# Altium footprint library con-dil.PCBLIB: 24 footprints (part 2 of 2)
Each footprint in its own frame and in the unit in brackets; x right, y up, seen from the top. Pads: shape width x height; smd on the part's side, far side on the other; paste and mask are expansions set on the pad; w line width, h text height; cw(c..) or ccw(c..) is an arc to the next point about the centre after c.
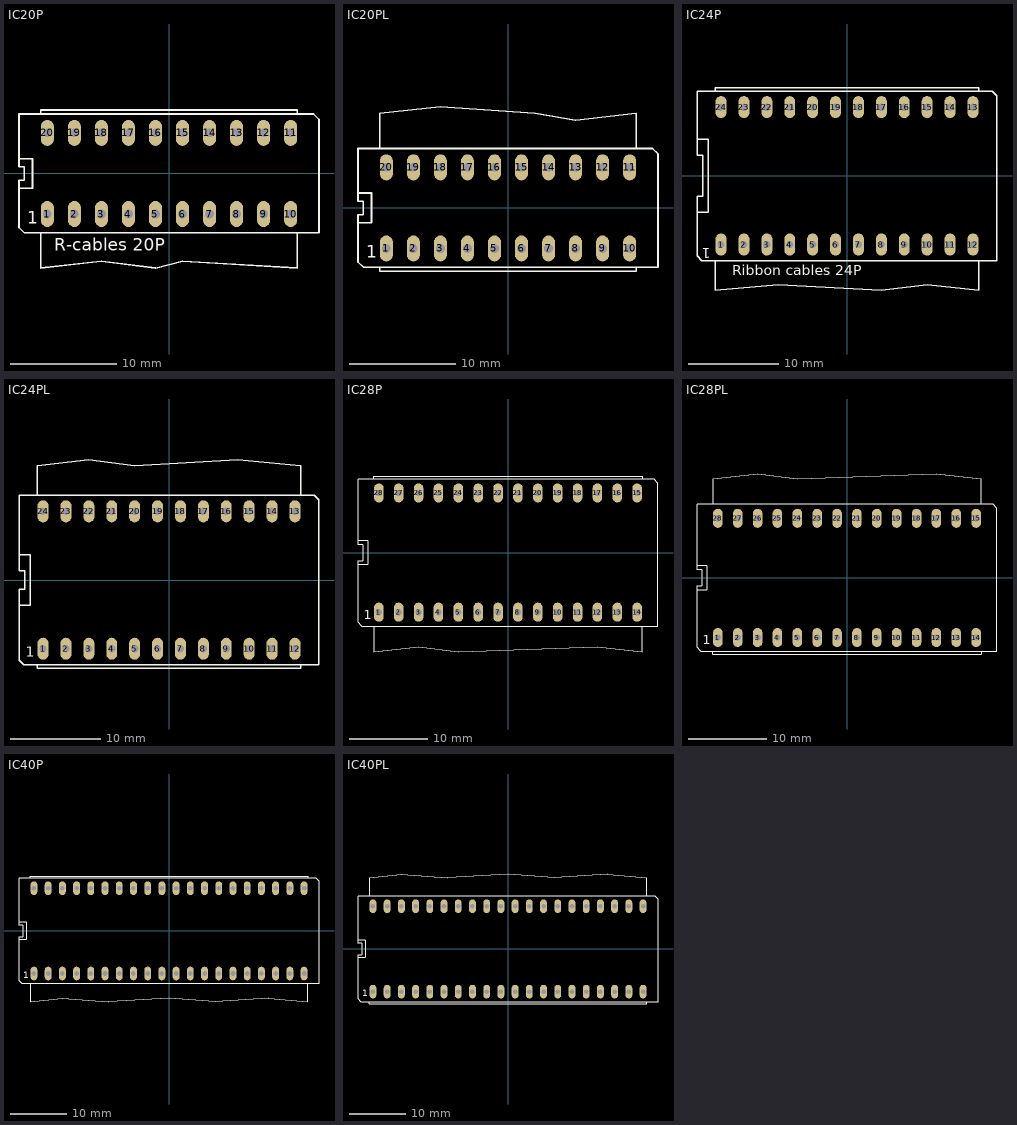
[diagram p1: the footprints below, top view; thin cyan lines are the x and y axes]

## IC20P [mil]
pads (20):
  oval 48x96 hole 32: 1(-450,-150) 2(-350,-150) 3(-250,-150) 4(-150,-150) 5(-50,-150) 6(50,-150) 7(150,-150) 8(250,-150) 9(350,-150) 10(450,-150) 11(450,150) 12(350,150) 13(250,150) 14(150,150) 15(50,150) 16(-50,150) 17(-150,150) 18(-250,150) 19(-350,150) 20(-450,150)
Top Overlay:
  lines w6: -555,-55 -505,-55 -505,55 -555,55 ; -555,-55 -555,-25 -535,-25 -535,25 -555,25 -555,55 ; -555,-55 -555,-200 -535,-220 -475,-220 ; -555,55 -555,220 -475,220 ; -475,-220 -475,-350 -250,-325 -50,-350 50,-325 475,-350 475,-220 ; -475,-220 475,-220 ; -475,220 475,220 ; -475,220 -475,235 475,235 475,220 ; 475,-220 555,-220 555,200 535,220 475,220
  text "1" at -525,-200 h77.5
  text "R-cables 20P" at -425,-300 h77.5

## IC20PL [mil]
pads (20):
  oval 48x96 hole 32: 1(-450,-150) 2(-350,-150) 3(-250,-150) 4(-150,-150) 5(-50,-150) 6(50,-150) 7(150,-150) 8(250,-150) 9(350,-150) 10(450,-150) 11(450,150) 12(350,150) 13(250,150) 14(150,150) 15(50,150) 16(-50,150) 17(-150,150) 18(-250,150) 19(-350,150) 20(-450,150)
Top Overlay:
  lines w6: -555,-55 -505,-55 -505,55 -555,55 ; -555,-55 -555,-25 -535,-25 -535,25 -555,25 -555,55 ; -555,-55 -555,-200 -535,-220 -475,-220 ; -555,55 -555,220 -475,220 ; -475,-220 -475,-235 475,-235 475,-220 ; -475,-220 475,-220 ; -475,220 -475,350 -250,375 100,350 250,325 475,350 475,220 ; -475,220 475,220 ; 475,-220 555,-220 555,200 535,220 475,220
  text "1" at -525,-200 h77.5

## IC24P [mil]
pads (24):
  oval 48x96 hole 32: 1(-550,-300) 2(-450,-300) 3(-350,-300) 4(-250,-300) 5(-150,-300) 6(-50,-300) 7(50,-300) 8(150,-300) 9(250,-300) 10(350,-300) 11(450,-300) 12(550,-300) 13(550,300) 14(450,300) 15(350,300) 16(250,300) 17(150,300) 18(50,300) 19(-50,300) 20(-150,300) 21(-250,300) 22(-350,300) 23(-450,300) 24(-550,300)
Top Overlay:
  lines w6: -655,-160 -605,-160 -605,160 -655,160 ; -655,-160 -655,-90 -630,-90 -630,90 -655,90 -655,160 ; -655,-160 -655,-350 -635,-370 -575,-370 ; -655,160 -655,370 -575,370 ; -575,-370 -575,-500 -300,-475 150,-500 350,-475 575,-500 575,-370 ; -575,-370 575,-370 ; -575,370 575,370 ; -575,370 -575,385 575,385 575,370 ; 575,-370 655,-370 655,350 635,370 575,370
  text "1" at -595,-300 h77.5
  text "Ribbon cables 24P" at -500,-450 h77.5

## IC24PL [mil]
pads (24):
  oval 48x96 hole 32: 1(-550,-300) 2(-450,-300) 3(-350,-300) 4(-250,-300) 5(-150,-300) 6(-50,-300) 7(50,-300) 8(150,-300) 9(250,-300) 10(350,-300) 11(450,-300) 12(550,-300) 13(550,300) 14(450,300) 15(350,300) 16(250,300) 17(150,300) 18(50,300) 19(-50,300) 20(-150,300) 21(-250,300) 22(-350,300) 23(-450,300) 24(-550,300)
Top Overlay:
  lines w6: -655,-110 -605,-110 -605,110 -655,110 ; -655,-110 -655,-40 -630,-40 -630,40 -655,40 -655,110 ; -655,-110 -655,-350 -635,-370 -575,-370 ; -655,110 -655,370 -575,370 ; -575,-370 -575,-385 575,-385 575,-370 ; -575,-370 575,-370 ; -575,370 575,370 ; -575,370 -575,500 -350,525 -150,500 300,525 575,500 575,370 ; 575,-370 655,-370 655,350 635,370 575,370
  text "1" at -625,-350 h77.5

## IC28P [mil]
pads (28):
  oval 48x96 hole 32: 1(-650,-300) 2(-550,-300) 3(-450,-300) 4(-350,-300) 5(-250,-300) 6(-150,-300) 7(-50,-300) 8(50,-300) 9(150,-300) 10(250,-300) 11(350,-300) 12(450,-300) 13(550,-300) 14(650,-300) 15(650,300) 16(550,300) 17(450,300) 18(350,300) 19(250,300) 20(150,300) 21(50,300) 22(-50,300) 23(-150,300) 24(-250,300) 25(-350,300) 26(-450,300) 27(-550,300) 28(-650,300)
Top Overlay:
  lines w6: -755,-60 -705,-60 -705,60 -755,60 ; -755,-60 -755,-40 -730,-40 -730,40 -755,40 -755,60 ; -755,-60 -755,-350 -735,-370 -675,-370 ; -755,60 -755,370 -675,370 ; -675,-370 -675,-500 -450,-475 -250,-500 450,-475 675,-500 675,-370 ; -675,-370 675,-370 ; -675,370 675,370 ; -675,370 -675,385 675,385 675,370 ; 675,-370 755,-370 755,350 735,370 675,370
  text "1" at -725,-350 h77.5

## IC28PL [mil]
pads (28):
  oval 48x96 hole 32: 1(-650,-300) 2(-550,-300) 3(-450,-300) 4(-350,-300) 5(-250,-300) 6(-150,-300) 7(-50,-300) 8(50,-300) 9(150,-300) 10(250,-300) 11(350,-300) 12(450,-300) 13(550,-300) 14(650,-300) 15(650,300) 16(550,300) 17(450,300) 18(350,300) 19(250,300) 20(150,300) 21(50,300) 22(-50,300) 23(-150,300) 24(-250,300) 25(-350,300) 26(-450,300) 27(-550,300) 28(-650,300)
Top Overlay:
  lines w6: -755,-60 -705,-60 -705,60 -755,60 ; -755,-60 -755,-40 -730,-40 -730,40 -755,40 -755,60 ; -755,-60 -755,-350 -735,-370 -675,-370 ; -755,60 -755,370 -675,370 ; -675,-370 675,-370 ; -675,-370 -675,-385 675,-385 675,-370 ; -675,370 -675,500 -450,525 -250,500 450,525 675,500 675,370 ; -675,370 675,370 ; 675,-370 755,-370 755,350 735,370 675,370
  text "1" at -725,-350 h77.5

## IC40P [mil]
pads (40):
  oval 48x96 hole 32: 1(-950,-300) 2(-850,-300) 3(-750,-300) 4(-650,-300) 5(-550,-300) 6(-450,-300) 7(-350,-300) 8(-250,-300) 9(-150,-300) 10(-50,-300) 11(50,-300) 12(150,-300) 13(250,-300) 14(350,-300) 15(450,-300) 16(550,-300) 17(650,-300) 18(750,-300) 19(850,-300) 20(950,-300) 21(950,300) 22(850,300) 23(750,300) 24(650,300) 25(550,300) 26(450,300) 27(350,300) 28(250,300) 29(150,300) 30(50,300) 31(-50,300) 32(-150,300) 33(-250,300) 34(-350,300) 35(-450,300) 36(-550,300) 37(-650,300) 38(-750,300) 39(-850,300) 40(-950,300)
Top Overlay:
  lines w6: -975,-370 -975,-500 -750,-475 -425,-500 0,-475 325,-500 700,-475 975,-500 975,-370 ; -1055,-60 -1005,-60 -1005,60 -1055,60 ; -1055,-60 -1055,-40 -1030,-40 -1030,40 -1055,40 -1055,60 ; -1055,-60 -1055,-350 -1035,-370 1055,-370 1055,350 1035,370 975,370 ; -1055,60 -1055,370 -975,370 ; -975,370 975,370 ; -975,370 -975,385 975,385 975,370
  text "1" at -1025,-350 h77.5

## IC40PL [mil]
pads (40):
  oval 48x96 hole 32: 1(-950,-300) 2(-850,-300) 3(-750,-300) 4(-650,-300) 5(-550,-300) 6(-450,-300) 7(-350,-300) 8(-250,-300) 9(-150,-300) 10(-50,-300) 11(50,-300) 12(150,-300) 13(250,-300) 14(350,-300) 15(450,-300) 16(550,-300) 17(650,-300) 18(750,-300) 19(850,-300) 20(950,-300) 21(950,300) 22(850,300) 23(750,300) 24(650,300) 25(550,300) 26(450,300) 27(350,300) 28(250,300) 29(150,300) 30(50,300) 31(-50,300) 32(-150,300) 33(-250,300) 34(-350,300) 35(-450,300) 36(-550,300) 37(-650,300) 38(-750,300) 39(-850,300) 40(-950,300)
Top Overlay:
  lines w6: -1055,-60 -1005,-60 -1005,60 -1055,60 ; -1055,-60 -1055,-40 -1030,-40 -1030,40 -1055,40 -1055,60 ; -1055,-60 -1055,-350 -1035,-370 -975,-370 ; -1055,60 -1055,370 -975,370 ; -975,-370 -975,-385 975,-385 975,-370 ; -975,-370 975,-370 ; -975,370 -975,500 -750,525 -425,500 0,525 325,500 700,525 975,500 975,370 ; -975,370 975,370 ; 975,-370 1055,-370 1055,350 1035,370 975,370
  text "1" at -1025,-350 h77.5